# Altium schematic symbol library IC_Microchip_Technology_-_Atmel_AT24CM01-XHM-T_eec.SchLib: 1 symbol
Pins are listed as number, name and electrical type; pins without a type are passive.

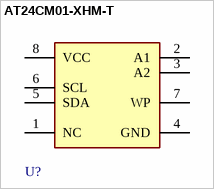
[diagram p0: symbol AT24CM01-XHM-T]

## AT24CM01-XHM-T
designator U?  (value not drawn)
pins: 1 NC, 2 A1, 3 A2, 4 GND, 5 SDA, 6 SCL, 7 WP, 8 VCC